# EAGLE library part AD8675ARMZ-REEL (library AD8675ARMZ-REEL)
Check availability <https://pricing.snapeda.com/parts/AD8675ARMZ/Analog%20Devices/view-part?ref=eda>
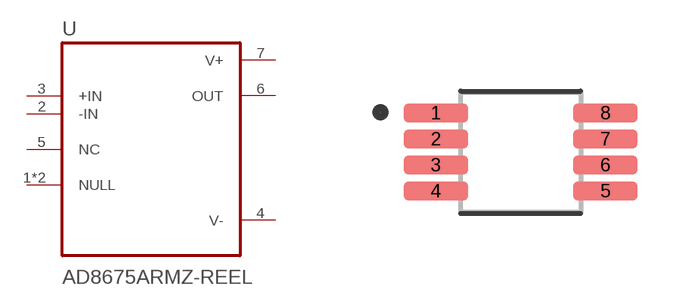
[diagram p0: symbol with the pads of SOP65P490X110-8N; footprint SOP65P490X110-8N]

Designator prefix U

## AD8675ARMZ-REEL (Availability: In Stock; Check_prices: https://www.snapeda.com/parts/AD8675ARMZ/Analog+Devices/view-part/?ref=eda; Description: 36 V Precision, 2.8 nV/√Hz Rail-to-Rail Output Op Amp; MF: Analog Devices; MP: AD8675ARMZ; Package: MSOP-8 Analog Devices; Price: None; Purchase-URL: https://www.snapeda.com/api/url_track_click_mouser/?unipart_id=570787&manufacturer=Analog Devices&part_name=AD8675ARMZ&search_term=ad8675; SnapEDA_Link: https://www.snapeda.com/parts/AD8675ARMZ/Analog+Devices/view-part/?ref=snap)  [SOP65P490X110-8N]
1  NULL
2  -IN  in
3  +IN  in
4  V-  pwr
5  NC
6  OUT  out
7  V+  pwr
8  NULL

## Footprint SOP65P490X110-8N (pad centres in mm)
smd 1.62 x 0.48: 1 -2.12,0.975; 2 -2.12,0.325; 3 -2.12,-0.325; 4 -2.12,-0.975; 5 2.12,-0.975; 6 2.12,-0.325; 7 2.12,0.325; 8 2.12,0.975